# Altium footprint library TEXT_TRUETYPE_FONTS.PcbLib: 1 footprints
Each footprint in its own frame and in the unit in brackets; x right, y up, seen from the top. Pads: shape width x height; smd on the part's side, far side on the other; paste and mask are expansions set on the pad; w line width, h text height; cw(c..) or ccw(c..) is an arc to the next point about the centre after c.
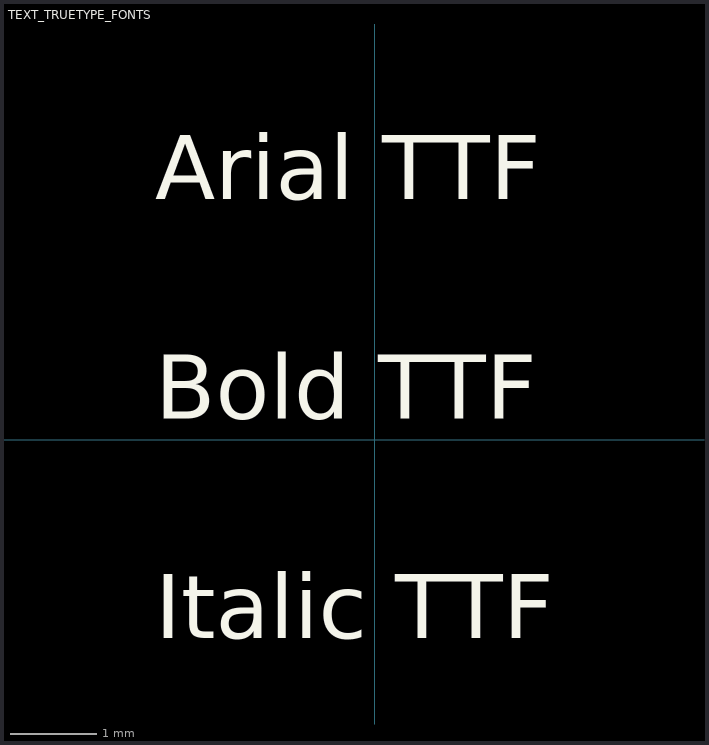
[diagram p0: the footprint, top view; thin cyan lines are the x and y axes]

## TEXT_TRUETYPE_FONTS [mm] "TrueType font variations"
Top Overlay:
  text "Italic TTF" at -2.54,-2.54 h1.27
  text "Bold TTF" at -2.54,0 h1.27
  text "Arial TTF" at -2.54,2.54 h1.27